# Altium schematic symbol library SmartyBoy.SchLib: 47 symbols
Pins are listed as number, name and electrical type; pins without a type are passive.

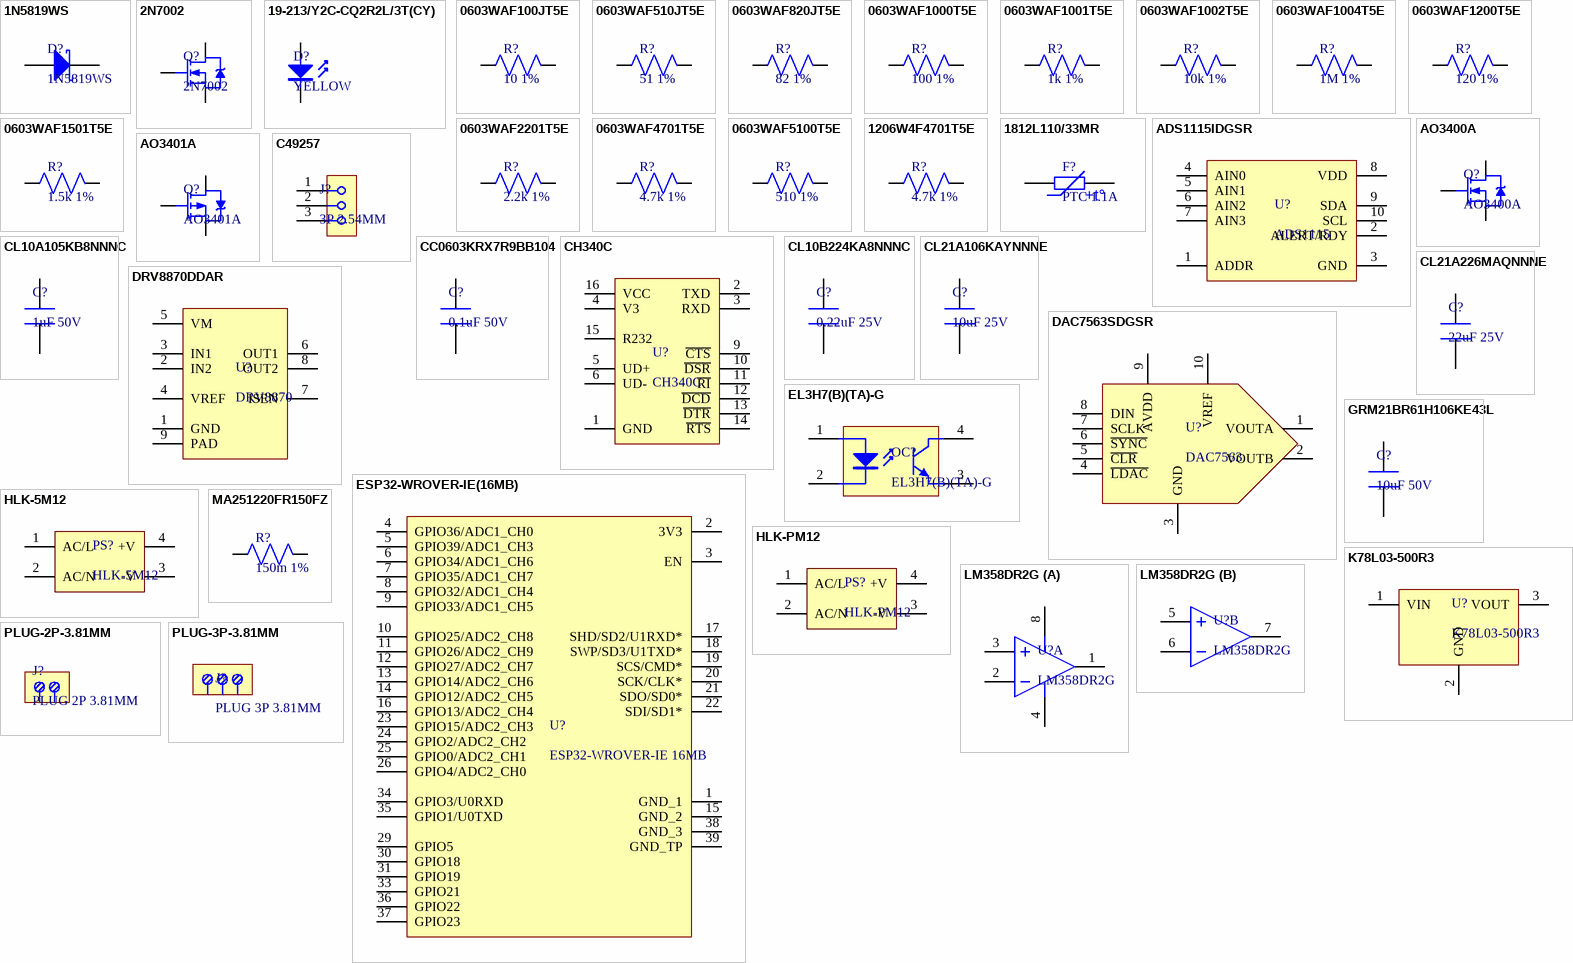
[diagram p0: symbols 1N5819WS to PLUG-3P-3.81MM]

## 1N5819WS
designator D?
40V 1A 600mV @ 1A SOD-323 Schottky Barrier Diodes (SBD); LCSC part: C191023; Category: Diodes: Schottky Barrier Diodes (SBD)
footprint SOD-323
pins: 1 K, 2 A

## 2N7002
designator Q?
2.5V 250uA 0.115A 60V N Channel 7.5Ω 500mA,10V 0.2W SOT-23(SOT-23-3) MOSFETs; LCSC part: C8545; Category: Transistors: MOSFETs
footprint SOT-23-3
pins: 1 G, 2 S, 3 D

## 19-213/Y2C-CQ2R2L/3T(CY)
designator D?, comment YELLOW
Yellow 585.5~591.5nm 0603 Light Emitting Diodes (LED); LCSC part: C72038; Category: Optoelectronics: Light Emitting Diodes (LED)
footprint LED0603-YELLOW
pins: 1, 2

## 0603WAF100JT5E
designator R?, comment 10 1%
±1% ±400ppm/℃ 10Ω 0.1W 0603 Chip Resistor - Surface Mount; LCSC part: C22859; Category: Resistors: Chip Resistor - Surface Mount
footprint R0603 (Resistor SMD 0603)
pins: 1, 2

## 0603WAF510JT5E
designator R?, comment 51 1%
±1% ±200ppm/℃ 0.1W 51Ω 0603 Chip Resistor - Surface Mount; LCSC part: C23197; Category: Resistors: Chip Resistor - Surface Mount
footprint R0603 (Resistor SMD 0603)
pins: 1, 2

## 0603WAF820JT5E
designator R?, comment 82 1%
82Ω ±1% ±200ppm/℃ 0.1W 0603 Chip Resistor - Surface Mount; LCSC part: C23255; Category: Resistors: Chip Resistor - Surface Mount
footprint R0603 (Resistor SMD 0603)
pins: 1, 2

## 0603WAF1000T5E
designator R?, comment 100 1%
±1% ±200ppm/℃ 100Ω 0.1W 0603 Chip Resistor - Surface Mount; LCSC part: C22775; Category: Resistors: Chip Resistor - Surface Mount
footprint R0603 (Resistor SMD 0603)
pins: 1, 2

## 0603WAF1001T5E
designator R?, comment 1k 1%
±1% ±100ppm/℃ 1kΩ 0.1W 0603 Chip Resistor - Surface Mount; LCSC part: C21190; Category: Resistors: Chip Resistor - Surface Mount
footprint R0603 (Resistor SMD 0603)
pins: 1, 2

## 0603WAF1002T5E
designator R?, comment 10k 1%
±1% ±100ppm/℃ 10kΩ 0.1W 0603 Chip Resistor - Surface Mount; LCSC part: C25804; Category: Resistors: Chip Resistor - Surface Mount
footprint R0603 (Resistor SMD 0603)
pins: 1, 2

## 0603WAF1004T5E
designator R?, comment 1M 1%
1MΩ ±1% ±100ppm/℃ 0.1W 0603 Chip Resistor - Surface Mount; LCSC part: C22935; Category: Resistors: Chip Resistor - Surface Mount
footprint R0603 (Resistor SMD 0603)
pins: 1, 2

## 0603WAF1200T5E
designator R?, comment 120 1%
±1% ±100ppm/℃ 120Ω 0.1W 0603 Chip Resistor - Surface Mount; LCSC part: C22787; Category: Resistors: Chip Resistor - Surface Mount
footprint R0603 (Resistor SMD 0603)
pins: 1, 2

## 0603WAF1501T5E
designator R?, comment 1.5k 1%
1.5kΩ ±1% ±100ppm/℃ 0.1W 0603 Chip Resistor - Surface Mount; LCSC part: C22843; Category: Resistors: Chip Resistor - Surface Mount
footprint R0603 (Resistor SMD 0603)
pins: 1, 2

## 0603WAF2201T5E
designator R?, comment 2.2k 1%
±1% 2.2kΩ ±100ppm/℃ 0.1W 0603 Chip Resistor - Surface Mount; LCSC part: C4190; Category: Resistors: Chip Resistor - Surface Mount
footprint R0603 (Resistor SMD 0603)
pins: 1, 2

## 0603WAF4701T5E
designator R?, comment 4.7k 1%
±1% 4.7kΩ ±100ppm/℃ 0.1W 0603 Chip Resistor - Surface Mount; LCSC part: C23162; Category: Resistors: Chip Resistor - Surface Mount
footprint R0603 (Resistor SMD 0603)
pins: 1, 2

## 0603WAF5100T5E
designator R?, comment 510 1%
510Ω ±1% ±100ppm/℃ 0.1W 0603 Chip Resistor - Surface Mount; LCSC part: C23193; Category: Resistors: Chip Resistor - Surface Mount
footprint R0603 (Resistor SMD 0603)
pins: 1, 2

## 1206W4F4701T5E
designator R?, comment 4.7k 1%
0.25W ±1% 4.7kΩ ±100ppm/℃ 1206 Chip Resistor - Surface Mount; LCSC part: C17936; Category: Resistors: Chip Resistor - Surface Mount
footprint R1206
pins: 1, 2

## 1812L110/33MR
designator F?, comment PTC 1.1A
Polymeric 33V 200mΩ 1.95A 500ms 1812 PTC Resettable Fuses; LCSC part: C142747; Category: Fuses: PTC Resettable Fuses
footprint 1812L
pins: 1, 2
text: +t°

## ADS1115IDGSR
designator U?, comment ADS1115
2,4 Differential, Single Ended 16 860 VSSOP-10 Analog To Digital Converters (ADCs); LCSC part: C37593; Category: Data Converters: Analog To Digital Converters (ADCs)
footprint MSOP-10
pins: 1 ADDR, 2 ALERT/RDY, 3 GND, 4 AIN0, 5 AIN1, 6 AIN2, 7 AIN3, 8 VDD, 9 SDA, 10 SCL

## AO3400A
designator Q?
1.4W 0.0265Ω 5.7A,10V 30V 5.7A N Channel 1.5V 250uA SOT-23-3L MOSFETs; LCSC part: C20917; Category: Transistors: MOSFETs
footprint SOT-23-3
pins: 1 G, 2 S, 3 D

## AO3401A
designator Q?
1.4W 0.044Ω 4.3A,10V 30V 1.3V 250uA P Channel 4A SOT-23-3L MOSFETs; Category: Transistors: MOSFETs; LCSC part: C15127
footprint SOT-23-3
pins: 1 G, 2 S, 3 D

## C49257
designator J?, comment 3P 2.54MM
3 2.54mm Straight 1 Header，Breakaway Through Hole Pin Header & Female Header; LCSC part: C49257; Category: Connectors: Pin Header & Female Header
footprint HDR-M-3P-2.54MM
pins: 1, 2, 3

## CC0603KRX7R9BB104
designator C?, comment 0.1uF 50V
X7R 100nF ±10% 50V 0603 Multilayer Ceramic Capacitors MLCC - SMD/SMT; LCSC part: C14663; Category: Capacitors: Multilayer Ceramic Capacitors MLCC - SMD/SMT
footprint C0603 (Capacitor SMD 0603)
pins: 1, 2

## CH340C
designator U?
USB 2.0 Transceiver 2Mbps SOP-16_150mil USB ICs ROHS; LCSC part: C84681; Category: Interface ICs: USB ICs
footprint SOP-16
pins: 1 GND, 2 TXD, 3 RXD, 4 V3, 5 UD+, 6 UD-, 7 NC1 hidden, 8 NC2 hidden, 9 ~{CTS}, 10 ~{DSR}, 11 ~{RI}, 12 ~{DCD}, 13 ~{DTR}, 14 ~{RTS}, 15 R232, 16 VCC

## CL10A105KB8NNNC
designator C?, comment 1uF 50V
X5R ±10% 50V 1uF 0603 Multilayer Ceramic Capacitors MLCC - SMD/SMT; LCSC part: C15849; Category: Capacitors: Multilayer Ceramic Capacitors MLCC - SMD/SMT
footprint C0603 (Capacitor SMD 0603)
pins: 1, 2

## CL10B224KA8NNNC
designator C?, comment 0.22uF 25V
X7R 25V ±10% 220nF 0603 Multilayer Ceramic Capacitors MLCC - SMD/SMT; LCSC part: C21120; Category: Capacitors: Multilayer Ceramic Capacitors MLCC - SMD/SMT
footprint C0603 (Capacitor SMD 0603)
pins: 1, 2

## CL21A106KAYNNNE
designator C?, comment 10uF 25V
X5R 25V ±10% 10uF 0805 Multilayer Ceramic Capacitors MLCC - SMD/SMT; LCSC part: C15850; Category: Capacitors: Multilayer Ceramic Capacitors MLCC - SMD/SMT
footprint C0805
pins: 1, 2

## CL21A226MAQNNNE
designator C?, comment 22uF 25V
X5R 25V ±20% 22uF 0805 Multilayer Ceramic Capacitors MLCC - SMD/SMT; LCSC part: C45783; Category: Capacitors: Multilayer Ceramic Capacitors MLCC - SMD/SMT
footprint C0805
pins: 1, 2

## DAC7563SDGSR
designator U?, comment DAC7563
VSSOP-10 Digital To Analog Converters (DACs); LCSC part: C601656; Category: Data Converters: Digital To Analog Converters (DACs)
footprint VSSOP-10
pins: 1 VOUTA, 2 VOUTB, 3 GND, 4 ~{LDAC}, 5 ~{CLR}, 6 ~{SYNC}, 7 SCLK, 8 DIN, 9 AVDD, 10 VREF

## DRV8870DDAR
designator U?, comment DRV8870
HSOP-8 Motor Driver ICs; LCSC part: C86590; Category: Power Management ICs: Motor Driver ICs
footprint HSOP-8
pins: 1 GND, 2 IN2, 3 IN1, 4 VREF, 5 VM, 6 OUT1, 7 ISEN, 8 OUT2, 9 PAD

## EL3H7(B)(TA)-G
designator OC?
1 3750Vrms TransistorOptocouplers DC SOP-4_P1.27 Optocouplers - Phototransistor Output; LCSC part: C32565; Category: Optoelectronics: Optocouplers - Phototransistor Output
footprint SSOP-4
pins: 1 A "Anode", 2 K "Cathode", 3 E "Emitter", 4 C "Collector"

## ESP32-WROVER-IE(16MB)
designator U?, comment ESP32-WROVER-IE 16MB
RX TXRX MOD WIFI EXT IPEX SMD; LCSC part: C701352; Category: IoT/Communication Modules: WiFi Modules
footprint ESP32-WROVER-IE
pins: 1 GND_1, 2 3V3, 3 EN, 4 GPIO36/ADC1_CH0, 5 GPIO39/ADC1_CH3, 6 GPIO34/ADC1_CH6, 7 GPIO35/ADC1_CH7, 8 GPIO32/ADC1_CH4, 9 GPIO33/ADC1_CH5, 10 GPIO25/ADC2_CH8, 11 GPIO26/ADC2_CH9, 12 GPIO27/ADC2_CH7, 13 GPIO14/ADC2_CH6, 14 GPIO12/ADC2_CH5, 15 GND_2, 16 GPIO13/ADC2_CH4, 17 SHD/SD2/U1RXD*, 18 SWP/SD3/U1TXD*, 19 SCS/CMD*, 20 SCK/CLK*, 21 SDO/SD0*, 22 SDI/SD1*, 23 GPIO15/ADC2_CH3, 24 GPIO2/ADC2_CH2, 25 GPIO0/ADC2_CH1, 26 GPIO4/ADC2_CH0, 29 GPIO5, 30 GPIO18, 31 GPIO19, 33 GPIO21, 34 GPIO3/U0RXD, 35 GPIO1/U0TXD, 36 GPIO22, 37 GPIO23, 38 GND_3, 39 GND_TP

## GRM21BR61H106KE43L
designator C?, comment 10uF 50V
X5R ±10% 50V 10uF 0805 Multilayer Ceramic Capacitors MLCC - SMD/SMT; LCSC part: C440198; Category: Capacitors: Multilayer Ceramic Capacitors MLCC - SMD/SMT
footprint C0805
pins: 1, 2

## HLK-5M12
designator PS?
220VAC to 12VDC Power Module 5W; LCSC part: C209908; Category: Power Management ICs: Power Modules
footprint HLK-5M12
pins: 1 AC/L, 2 AC/N, 3 -V, 4 +V

## HLK-PM12
designator PS?
220VAC to 12VDC Power Module 3W; LCSC part: C209905; Category: Power Management ICs: Power Modules
footprint HLK-PM12
pins: 1 AC/L, 2 AC/N, 3 -V, 4 +V

## K78L03-500R3
designator U?
36V 500mA 3.3V 1 SIP Power Modules; LCSC part: C115818; Category: Power Management ICs: Power Modules
footprint K78LXX-500R3
pins: 1 VIN, 2 GND, 3 VOUT

## LM358DR2G
designator U?
1MHz 2 General Purpose 1.5mA 0.6 V/us 3V ~ 32V, ±1.5V ~ 16V SOIC-8_150mil General Purpose Amplifiers; Category: Amplifiers: General Purpose Amplifiers; LCSC part: C7950
footprint SOIC-8
part A pins: 1 OUT1, 2 IN1-, 3 IN1+, 4 VSS (power), 8 VDD (power)
part B pins: 5 IN2+, 6 IN2-, 7 OUT2

## MA251220FR150FZ
designator R?, comment 150m 1%
±1% 0.15Ω ±50ppm/℃ 2W 2512 Current Sense Resistors/Shunt Resistors; LCSC part: C252673; Category: Resistors: Current Sense Resistors/Shunt Resistors
footprint R2512
pins: 1, 2

## PLUG-2P-3.81MM
designator J?, comment PLUG 2P 3.81MM  (no BOM)
Terminal block plug 2positions 3.81mm; Category: Connectors: Pluggable System Terminal Block
footprint TB-PLUG-2P-3.81MM
footprint TB-PLUG-2P-3.81MM

## PLUG-3P-3.81MM
designator J?, comment PLUG 3P 3.81MM  (no BOM)
Terminal block plug 3positions 3.81mm; Category: Connectors: Pluggable System Terminal Block
footprint TB-PLUG-3P-3.81MM

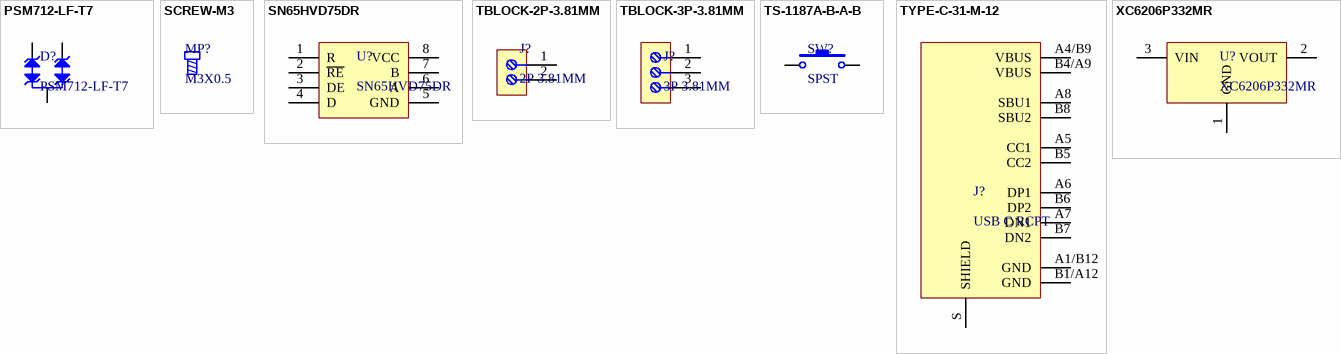
[diagram p1: symbols PSM712-LF-T7 to XC6206P332MR]

## PSM712-LF-T7
designator D?
Bidirectional - 19V 13.3V 12V SOT-23(SOT-23-3) TVS; Category: Diodes: TVS; LCSC part: C32677
footprint SOT-23-3
pins: 1, 2, 3

## SCREW-M3
designator MP?, comment M3X0.5  (no BOM)
Mach screw M3X0.5; Category: Accesories
footprint SCREW-M3

## SN65HVD75DR
designator U?
Transceiver 1/1 RS422, RS485 20Mbps SOIC-8_150mil RS-485/RS-422 ICs; LCSC part: C57928; Category: Interface ICs: RS-485/RS-422 ICs
footprint SOIC-8
pins: 1 R, 2 ~{RE}, 3 DE, 4 D, 5 GND, 6 A, 7 B, 8 VCC

## TBLOCK-2P-3.81MM
designator J?, comment 2P 3.81MM  (no BOM)
Terminal Block 2 Positions 3.81MM; Category: Connectors: Pluggable System Terminal Block
footprint TB-2P-3.81MM
pins: 1, 2

## TBLOCK-3P-3.81MM
designator J?, comment 3P 3.81MM  (no BOM)
Terminal Block 3 Positions 3.81MM; Category: Connectors: Pluggable System Terminal Block
footprint TB-3P-3.81MM
pins: 1, 2, 3

## TS-1187A-B-A-B
designator SW?, comment SPST
Top Actuated 50mA @ 12VDC Round Button 160gf SPST SMD Tactile Switches; LCSC part: C318884; Category: Pushbutton Switches & Relays: Tactile Switches
footprint SW-TS-1187A-B-A-B
pins: 1, 2

## TYPE-C-31-M-12
designator J?, comment USB C RCPT
Receptacle USB Type C 16 Pins; LCSC part: C165948; Category: Connectors: USB Connectors
footprint USB-TYPE-C-RCPT
pins: A1/B12 GND, A4/B9 VBUS, A5 CC1, A6 DP1, A7 DN1, A8 SBU1, B1/A12 GND, B4/A9 VBUS, B5 CC2, B6 DP2, B7 DN2, B8 SBU2, S SHIELD

## XC6206P332MR
designator U?
6V 680mV @ 100mA Fixed 3.3V SOT-23-3L Linear Voltage Regulators (LDO); LCSC part: C5446; Category: Power Management ICs: Linear Voltage Regulators (LDO)
footprint SOT-23-3
pins: 1 GND, 2 VOUT, 3 VIN